# Altium footprint library EASY-EAI-Nano-TB V1.01.PcbLib: 64 footprints (part 4 of 4)
Each footprint in its own frame and in the unit in brackets; x right, y up, seen from the top. Pads: shape width x height; smd on the part's side, far side on the other; paste and mask are expansions set on the pad; w line width, h text height; cw(c..) or ccw(c..) is an arc to the next point about the centre after c.
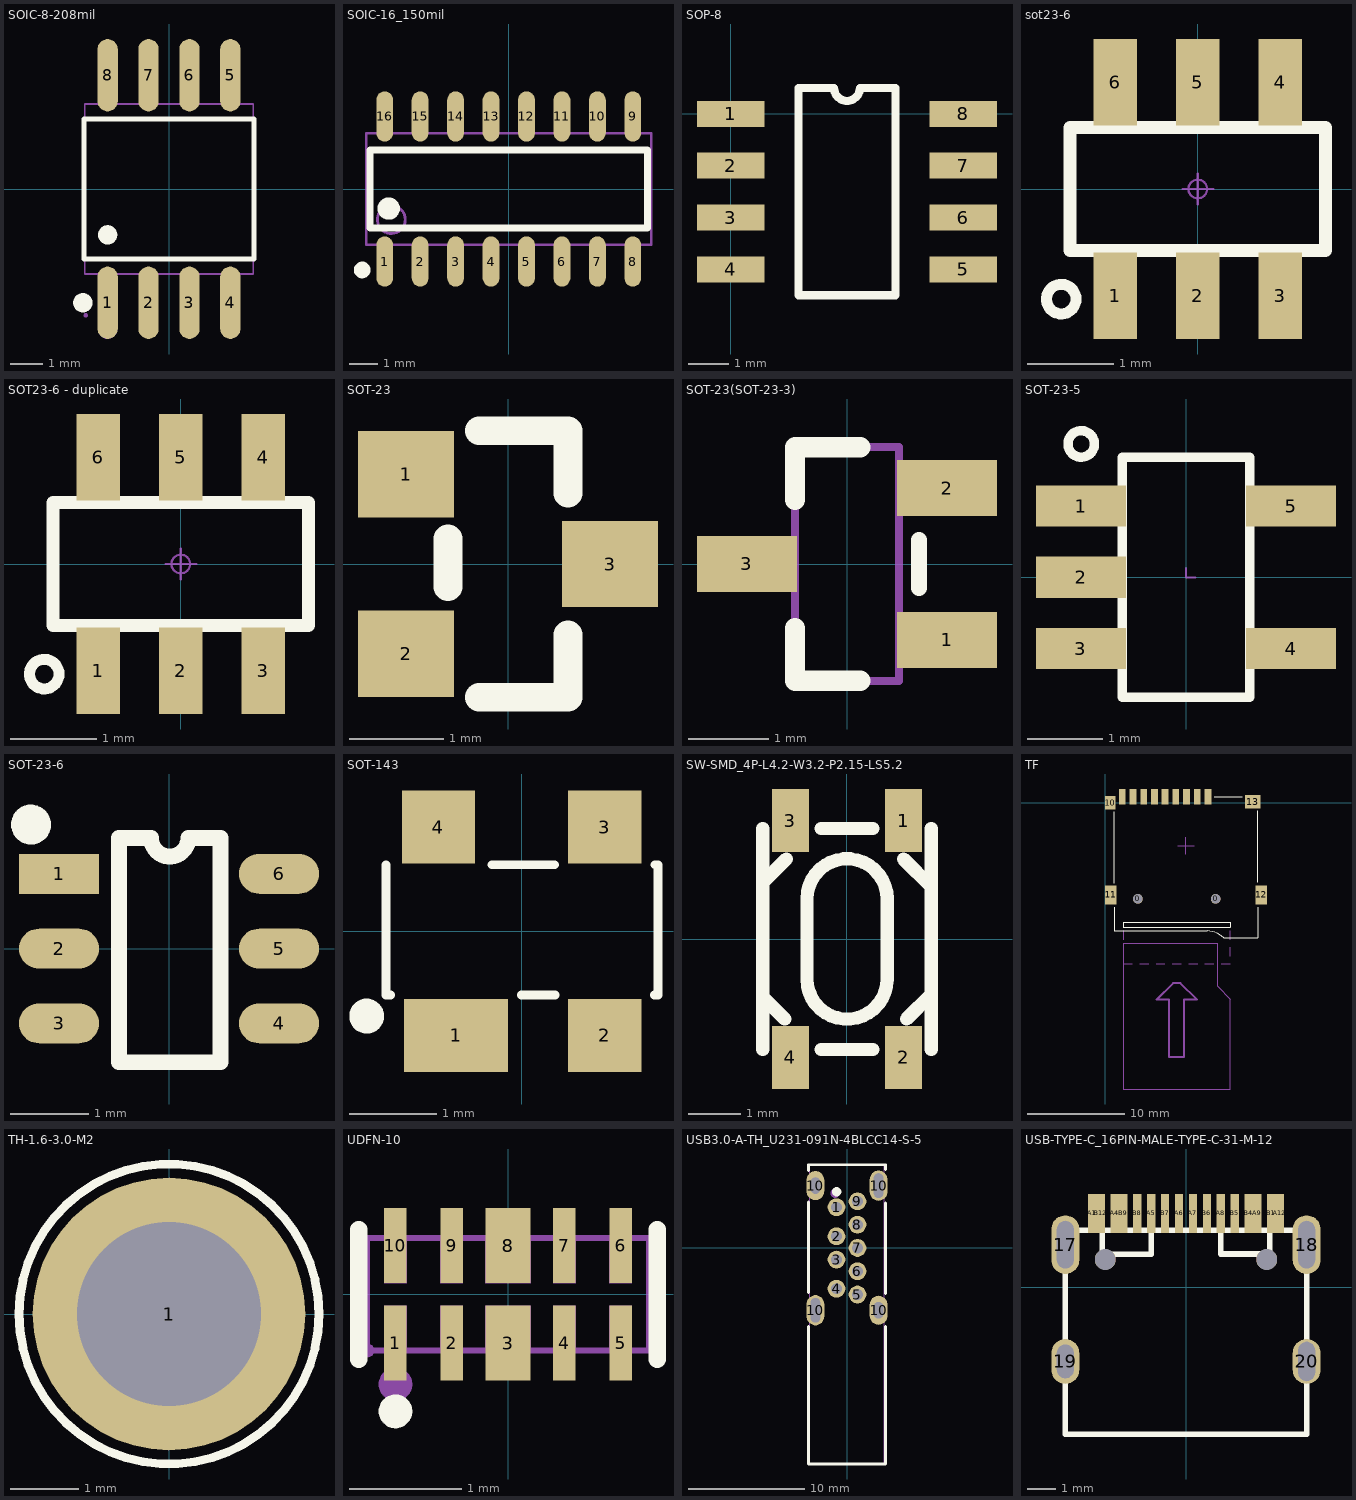
[diagram p3: the footprints below, top view; thin cyan lines are the x and y axes]

## SOIC-8-208mil [mm]
pads (8):
  oval 0.63x2.25 smd: 1(-1.905,-3.53) 2(-0.635,-3.53) 3(0.635,-3.53) 4(1.905,-3.53) 5(1.905,3.53) 6(0.635,3.53) 7(-0.635,3.53) 8(-1.905,3.53)
Top Overlay:
  circle w0.3: c-1.905,-1.424 r0.15
  circle w0.3: c-2.672,-3.53 r0.15
  lines w0.152: -2.639,-2.176 -2.639,2.176 2.639,2.176 2.639,-2.176 -2.639,-2.176
Mechanical 6:
  circle w0.3: c-1.905,-4.35 r0.15
Mechanical 15:
  region: -2.13,-3.95 -2.13,-3.3 -1.68,-3.3 -1.68,-3.95
  region: -2.13,-3.31 -2.13,-2.595 -1.68,-2.595 -1.68,-3.31
  region: -0.86,-3.95 -0.86,-3.3 -0.41,-3.3 -0.41,-3.95
  region: -0.86,-3.31 -0.86,-2.595 -0.41,-2.595 -0.41,-3.31
  region: 0.41,-3.95 0.41,-3.3 0.86,-3.3 0.86,-3.95
  region: 0.41,-3.31 0.41,-2.595 0.86,-2.595 0.86,-3.31
  region: 1.68,-3.95 1.68,-3.3 2.13,-3.3 2.13,-3.95
  region: 1.68,-3.31 1.68,-2.595 2.13,-2.595 2.13,-3.31
  region: -2.13,3.95 -2.13,3.3 -1.68,3.3 -1.68,3.95
  region: -2.13,3.31 -2.13,2.595 -1.68,2.595 -1.68,3.31
  region: -0.86,3.95 -0.86,3.3 -0.41,3.3 -0.41,3.95
  region: -0.86,3.31 -0.86,2.595 -0.41,2.595 -0.41,3.31
  region: 0.41,3.95 0.41,3.3 0.86,3.3 0.86,3.95
  region: 0.41,3.31 0.41,2.595 0.86,2.595 0.86,3.31
  region: 1.68,3.95 1.68,3.3 2.13,3.3 2.13,3.95
  region: 1.68,3.31 1.68,2.595 2.13,2.595 2.13,3.31
  region: -2.525,-3.92 -2.525,-3.895 -2.56,-3.86 -2.61,-3.86 -2.645,-3.895 -2.645,-3.92 -2.645,-3.945 -2.61,-3.98 -2.56,-3.98 -2.525,-3.945
  lines w0.051: -2.615,-2.64 -2.615,2.64 2.615,2.64 2.615,-2.64 -2.615,-2.64

## SOIC-16_150mil [mm]
pads (16):
  oval 0.6x1.8 smd: 1(-4.445,-2.6) 2(-3.175,-2.6) 3(-1.905,-2.6) 4(-0.635,-2.6) 5(0.635,-2.6) 6(1.905,-2.6) 7(3.175,-2.6) 8(4.445,-2.6) 9(4.445,2.6) 10(3.175,2.6) 11(1.905,2.6) 12(0.635,2.6) 13(-0.635,2.6) 14(-1.905,2.6) 15(-3.175,2.6) 16(-4.445,2.6)
Top Overlay:
  circle w0.3: c-5.25,-2.9 r0.15
  circle w0.4: c-4.3,-0.7 r0.2
  lines w0.254: -4.975,-1.4 4.975,-1.4 4.975,1.4 -4.975,1.4 -4.975,-1.4
Mechanical 13:
  circle w0.1: c-4.205,-1.095 r0.5
  lines w0.1: -5.105,-1.995 5.105,-1.995 5.105,1.995 -5.105,1.995 -5.105,-1.995
3D body "SOIC16P127_990X600X175L60X40.STEP": height 1.75, standoff 0, extent -4.95,-2.97 4.95,3.03

## SOP-8 [mil]
pads (8):
  rect 65x25 smd: 1(0,0) 2(0,-50) 3(0,-100) 4(0,-150) 5(224.41,-150) 6(224.41,-100) 7(224.41,-50) 8(224.41,0)
Top Overlay:
  lines w7.87: 65.37,-175 159.04,-175 159.04,25 124.7,25 cw(c112.2,25) 99.7,25 65.37,25 65.37,-175

## sot23-6 [mm] "SOT23-6"
height 0.2
pads (6):
  rect 0.5x1 smd: 1(-0.95,-1.23) 2(0,-1.23) 3(0.95,-1.23) 4(0.95,1.23) 5(0,1.23) 6(-0.95,1.23)
Top Overlay:
  circle w0.127: c-1.575,-1.27 r0.17
  lines w0.15: -1.473,-0.711 -1.473,0.711 1.473,0.711 1.473,-0.711 -1.473,-0.711
Mechanical 8:
  circle w0.025: c0,0 r0.108
  lines w0.025: -0.178,0 0.178,0 ; 0,-0.178 0,0.178
3D body: height 2, standoff 0, extent -1.245,-1.27 1.245,1.27

## SOT23-6 - duplicate [mm]
pads (6):
  rect 0.5x1 smd: 1(-0.95,-1.23) 2(0,-1.23) 3(0.95,-1.23) 4(0.95,1.23) 5(0,1.23) 6(-0.95,1.23)
Top Overlay:
  circle w0.127: c-1.575,-1.27 r0.17
  lines w0.15: -1.473,-0.711 1.473,-0.711 1.473,0.711 -1.473,0.711 -1.473,-0.711
Mechanical 8:
  circle w0.025: c0,0 r0.108
  lines w0.025: -0.178,0 0.178,0 ; 0,-0.178 0,0.178
3D body: height 2, standoff 0, extent -1.245,-1.27 1.245,1.27

## SOT-23 [mil]
pads (3):
  rect 40x36 smd: 1(-42.5,37.4) 2(-42.5,-37.4) 3(42.5,0)
Top Overlay:
  lines w12: -25,-9.5 -25,10.5 ; -12,-55.5 25,-55.5 25,-29.5 ; -12,55.5 25,55.5 25,29.5
3D body "sot23-3.STEP": height 39.37, standoff -0.79, extent -47,-56.98 50.48,57.98

## SOT-23(SOT-23-3) [mm]
height 2.7
pads (3):
  rect 1.25x0.7 smd: 1(1.25,-0.95) 2(1.25,0.95) 3(-1.25,0)
Top Overlay:
  lines w0.2: 0.9,-0.3 0.9,0.3
  lines w0.254: -0.65,-0.8 -0.65,-1.46 0.165,-1.46 ; 0.165,1.46 -0.65,1.46 ; -0.65,0.8 -0.65,1.46 ; -0.65,0.8 -0.65,1.46 ; -0.65,0.8 -0.65,1.46
Mechanical 13:
  lines w0.1: -0.65,-1.46 -0.65,1.46 ; -0.65,-1.46 0.65,-1.46 ; -0.65,-1.46 -0.65,1.46 ; -0.65,-1.46 0.65,-1.46 ; -0.65,-1.46 0.65,-1.46 ; -0.65,-1.46 -0.65,1.46 ; -0.65,1.46 0.65,1.46 ; -0.65,1.46 0.65,1.46 ; -0.65,1.46 0.65,1.46 ; 0.65,-1.46 0.65,1.46 ; 0.65,-1.46 0.65,1.46 ; 0.65,-1.46 0.65,1.46
3D body "SOT-23.step": height 1.3, standoff 0, extent -1.5,-1.5 1.5,1.5

## SOT-23-5 [mm]
pads (5):
  rect 1.2x0.55 smd: 1(-1.4,0.95) 2(-1.4,0) 3(-1.4,-0.95) 4(1.4,-0.95) 5(1.4,0.95)
Top Overlay:
  circle w0.127: c-1.397,1.778 r0.177
  lines w0.127: -0.85,-1.6 0.85,-1.6 0.85,1.6 -0.85,1.6 -0.85,-1.6
Mechanical 2:
  lines w0.025: 0,0.127 0,0 0.127,0

## SOT-23-6 [mil]
pads (6):
  rect 40x20 smd: 1(-55,37.4)
  oval 40x20 smd: 2(-55,0) 3(-55,-37.4) 4(55,-37.4) 5(55,0) 6(55,37.4)
Top Overlay:
  circle w10: c-69,62 r5
  lines w7.87: -25,55.4 -25,-56.8 25.7,-56.8 25.7,55.4 ; -9,55.4 ccw(c0.35,55.4) 9.7,55.4
  lines w8: -25,55.4 -9,55.4 ; 9.7,55.4 25.7,55.4
3D body "User Library-SOT-23-6.STEP": height 42.61, standoff -0.39, extent -48.5,-55 47,55

## SOT-143 [mil]
height 25
pads (4):
  rect 47x33 smd mask+2: 1(-29.5,-46.9)
  rect 33x33 smd mask+2: 2(37.4,-46.9) 3(37.4,46.9) 4(-37.4,46.9)
Top Overlay:
  circle w7.9: c-69.7,-38.2 r3.9
  lines w3.9: -61,29.9 -61,-28.7 -58.9,-28.7 ; -13.4,29.9 14.9,29.9 ; -0.2,-28.7 15.1,-28.7 ; 59.7,-28.7 61.4,-28.7 61.4,29.9 59.9,29.9

## SW-SMD_4P-L4.2-W3.2-P2.15-LS5.2 [mm]
height 1.8
pads (4):
  rect 0.7x1.2 smd: 1(1.075,2.25) 2(1.075,-2.25) 3(-1.075,2.25) 4(-1.075,-2.25)
Top Overlay:
  lines w0.254: -1.6,-2.1 -1.6,2.1 ; -1.6,-1.102 -1.182,-1.52 ; -1.6,1.07 -1.151,1.52 ; -0.494,-2.1 0.494,-2.1 ; -0.494,2.1 0.494,2.1 0.495,2.099 ; 1.074,1.52 1.6,0.994 ; 1.131,-1.52 1.6,-1.051 ; 1.6,-2.1 1.6,2.1 ; -0.761,-0.761 ccw(c0.001,-0.761) 0.762,-0.762 0.763,0.763 ccw(c0.001,0.763) -0.761,0.763 -0.761,-0.761
Mechanical 5:
  region: -1.35,2.1 -1.35,2.6 -0.8,2.6 -0.8,2.1
  region: -1.35,-2.6 -1.35,-2.1 -0.8,-2.1 -0.8,-2.6
  region: 0.8,-2.6 0.8,-2.1 1.35,-2.1 1.35,-2.6
  region: 0.8,2.1 0.8,2.6 1.35,2.6 1.35,2.1

## TF [mm]
height 0.2
pads (15):
  round 1 hole 1 unplated: 0(3.341,-9.865) 0(11.341,-9.865)
  rect 0.7x1.6 smd: 1(10.541,0.635) 2(9.441,0.635) 3(8.341,0.635) 4(7.241,0.635) 5(6.141,0.635) 6(5.041,0.635) 7(3.941,0.635) 8(2.841,0.635) 9(1.741,0.635)
  rect 1.1x1.4 smd: 10(0.491,0.035)
  rect 1.2x2 smd: 11(0.541,-9.465) 12(16.041,-9.465)
  rect 1.6x1.4 smd: 13(15.141,0.135)
Top Overlay:
  lines w0.127: 0.916,-10.714 0.916,-13.165 9.916,-13.165 10.476,-13.165 cw(c10.476,-15.555) 12.166,-13.865 15.666,-13.865 15.666,-10.74 ; 0.916,-8.25 0.916,-0.91 ; 11.187,0.635 14.082,0.635 ; 15.666,-8.174 15.666,-0.808 ; 1.841,-12.772 12.841,-12.772 12.841,-12.289 1.841,-12.289 1.841,-12.772
Mechanical 15:
  lines w0.127: 1.843,-15.753 1.843,-14.834 ; 1.843,-14.077 1.843,-13.157 ; 1.855,-16.51 2.774,-16.51 ; 3.531,-16.51 4.451,-16.51 ; 5.208,-16.51 6.127,-16.51 ; 6.884,-16.51 7.804,-16.51 ; 7.427,-4.415 8.291,-4.415 ; 8.291,-5.279 8.291,-4.415 ; 8.291,-3.551 8.291,-4.415 ; 8.56,-16.51 9.48,-16.51 ; 9.155,-4.415 8.291,-4.415 ; 10.237,-16.51 11.156,-16.51 ; 11.913,-16.51 12.833,-16.51 ; 12.833,-15.753 12.833,-14.834 ; 12.833,-14.077 12.833,-13.157 ; 1.843,-29.415 1.843,-14.415 11.543,-14.415 11.543,-18.86 12.843,-20.16 12.843,-29.415 1.843,-29.415
  lines w0.203: 5.258,-20.226 6.553,-20.226 6.553,-26.119 8.103,-26.119 8.103,-20.201 9.398,-20.201 7.722,-18.524 6.96,-18.524 5.258,-20.226
3D body: height 2, standoff 0, extent 0.916,-13.865 15.666,0.635

## TH-1.6-3.0-M2 [mm]
height 1.016
pads (1):
  round 4 / inner round 3.607 / far side round 4.013 hole 2.7: 1(0,0)
Top Overlay:
  circle w0.127: c0,0 r2.2
Top Paste:
  region: 0.127,1.977 0.306,1.966 0.653,1.879 0.98,1.731 1.274,1.528 1.528,1.274 1.731,0.98 1.879,0.653 1.966,0.306 1.977,0.127 1.366,0.127 1.35,0.245 1.287,0.474 1.186,0.688 1.05,0.882 0.882,1.05 0.688,1.186 0.474,1.287 0.245,1.35 0.127,1.366
  region: -1.977,0.127 -1.966,0.306 -1.879,0.653 -1.731,0.98 -1.528,1.274 -1.274,1.528 -0.98,1.731 -0.653,1.879 -0.306,1.966 -0.127,1.977 -0.127,1.366 -0.245,1.35 -0.474,1.287 -0.688,1.186 -0.882,1.05 -1.05,0.882 -1.186,0.688 -1.287,0.474 -1.35,0.245 -1.366,0.127
  region: -0.127,-1.977 -0.306,-1.966 -0.653,-1.879 -0.98,-1.731 -1.274,-1.528 -1.528,-1.274 -1.731,-0.98 -1.879,-0.653 -1.966,-0.306 -1.977,-0.127 -1.366,-0.127 -1.35,-0.245 -1.287,-0.474 -1.186,-0.688 -1.05,-0.882 -0.882,-1.05 -0.688,-1.186 -0.474,-1.287 -0.245,-1.35 -0.127,-1.366
  region: 1.977,-0.127 1.966,-0.306 1.879,-0.653 1.731,-0.98 1.528,-1.274 1.274,-1.528 0.98,-1.731 0.653,-1.879 0.306,-1.966 0.127,-1.977 0.127,-1.366 0.245,-1.35 0.474,-1.287 0.688,-1.186 0.882,-1.05 1.05,-0.882 1.186,-0.688 1.287,-0.474 1.35,-0.245 1.366,-0.127

## UDFN-10 [mm]
height 0.635
pads (10):
  rect 0.2x0.665 smd mask+0.051: 1(-1,-0.433) 2(-0.5,-0.433) 4(0.5,-0.433) 5(1,-0.433) 6(1,0.433) 7(0.5,0.433) 9(-0.5,0.433) 10(-1,0.433)
  rect 0.4x0.665 smd mask+0.051: 3(0,-0.433) 8(0,0.433)
Top Overlay:
  circle w0.15: c-1,-1.04 r0.075
  lines w0.152: -1.326,-0.576 -1.326,0.576 ; 1.326,-0.576 1.326,0.576
Top Paste:
  region: -0.2,-0.1 0.2,-0.1 0.2,-0.765 -0.2,-0.765 -0.2,-0.766
  region: -0.2,0.765 0.2,0.765 0.2,0.1 -0.2,0.1
  region: -0.601,-0.1 -0.4,-0.1 -0.4,-0.765 -0.6,-0.765
  region: -1.101,-0.1 -0.9,-0.1 -0.9,-0.765 -1.1,-0.765
  region: 0.399,-0.1 0.6,-0.1 0.6,-0.765 0.4,-0.765
  region: 0.899,-0.1 1.1,-0.1 1.1,-0.765 0.9,-0.765
  region: 0.899,0.765 1.1,0.765 1.1,0.101 0.9,0.101
  region: 0.399,0.765 0.6,0.765 0.6,0.101 0.4,0.101
  region: -0.601,0.765 -0.4,0.765 -0.4,0.101 -0.6,0.101
  region: -1.101,0.765 -0.9,0.765 -0.9,0.101 -1.1,0.101
Mechanical 6:
  circle w0.15: c-1,-0.8 r0.075
Mechanical 15:
  region: -0.2,-0.1 0.2,-0.1 0.2,-0.5 -0.2,-0.5
  region: -0.2,0.5 0.2,0.5 0.2,0.1 -0.2,0.1
  region: -1.1,0.5 -1.1,0.1 -0.9,0.1 -0.9,0.5
  region: -0.6,0.5 -0.6,0.1 -0.4,0.1 -0.4,0.5
  region: 0.4,0.5 0.4,0.1 0.6,0.1 0.6,0.5
  region: 0.9,0.5 0.9,0.1 1.1,0.1 1.1,0.5
  region: 0.9,-0.5 0.9,-0.1 1.1,-0.1 1.1,-0.5
  region: 0.4,-0.5 0.4,-0.1 0.6,-0.1 0.6,-0.5
  region: -0.6,-0.5 -0.6,-0.1 -0.4,-0.1 -0.4,-0.5
  region: -1.1,-0.5 -1.1,-0.1 -0.9,-0.1 -0.9,-0.5
  region: -1.185,-0.5 -1.204,-0.454 -1.25,-0.435 -1.296,-0.454 -1.315,-0.5 -1.296,-0.546 -1.25,-0.565 -1.204,-0.546
  lines w0.051: -1.25,-0.5 1.25,-0.5 1.25,0.5 -1.25,0.5 -1.25,-0.5

## USB3.0-A-TH_U231-091N-4BLCC14-S-5 [mil]
pads (13):
  round 60 hole 36 copper offset 0.01,-0.01: 1(-35.44,137.8) 4(-35.44,-137.79)
  round 60 hole 36: 2(-35.44,39.38) 3(-35.44,-39.36) 5(35.44,-157.48) 6(35.44,-78.74) 7(35.44,0) 8(35.44,78.74) 9(35.44,157.48)
  oval 60x102.36 hole 31.5 slot 82.68 at 90 deg: 10(-106.69,-210.62) 10(106.69,210.63)
  oval 60x98.42 hole 31.5 slot 55.12 at 90 deg: 10(-106.69,210.64) 10(106.69,-210.63)
Top Overlay:
  circle w15.75: c-34.99,190 r7.87
  lines w10: -130,-150 -130,156.04 ; -129.91,-265.54 -129.91,-729.96 129.87,-729.96 130.21,-730.31 130.21,-265.51 129.93,-265.23 ; -129.91,261.77 -129.91,281.22 -129.81,281.33 129.93,281.33 129.93,264.79 ; 129.93,-154.4 129.93,151.65
Mechanical 6:
  circle w15.75: c-39.99,185 r7.87
Mechanical 15:
  region: -44.29,128.93 -44.29,146.65 -26.58,146.65 -26.58,128.93
  region: -44.29,30.51 -44.29,48.23 -26.58,48.23 -26.58,30.51
  region: -44.29,-48.23 -44.29,-30.51 -26.58,-30.51 -26.58,-48.23
  region: -44.29,-146.66 -44.29,-128.94 -26.58,-128.94 -26.58,-146.66
  region: 26.58,-166.34 26.58,-148.62 44.29,-148.62 44.29,-166.34
  region: 26.58,-87.6 26.58,-69.88 44.29,-69.88 44.29,-87.6
  region: 26.58,-8.86 26.58,8.86 44.29,8.86 44.29,-8.86
  region: 26.58,69.88 26.58,87.6 44.29,87.6 44.29,69.88
  region: 26.58,148.62 26.58,166.34 44.29,166.34 44.29,148.62
  region: -112.6,-246.06 -112.6,-175.2 -100.79,-175.2 -100.79,-246.06
  region: 100.79,175.2 100.79,246.06 112.6,246.06 112.6,175.2
  region: 100.79,-230.31 100.79,-190.94 112.6,-190.94 112.6,-230.31
  region: -112.6,190.94 -112.6,230.31 -100.79,230.31 -100.79,190.94
  region: -124.01,281.5 -124.04,282.46 -125.41,283.79 -127.33,283.8 -128.71,282.46 -128.73,281.5 -128.71,280.55 -127.33,279.21 -125.42,279.21 -124.04,280.54
  lines w2: -126.38,-730.32 126.38,-730.32 126.38,281.5 -126.38,281.5 -126.38,-730.32

## USB-TYPE-C_16PIN-MALE-TYPE-C-31-M-12 [mm]
pads (22):
  oval 1x2.1 hole 0.6 slot 1.7 at 90 deg: 17(-4.32,1.531) 18(4.32,1.531)
  oval 1x1.6 hole 0.6 slot 1.2 at 90 deg: 19(-4.32,-2.649)
  oval 1x1.6 hole 0.6 slot 1.4 at 90 deg: 20(4.32,-2.649)
  rect 0.3x1.4 smd: A1(-3.35,2.649) A4(-2.55,2.649) A5(-1.25,2.649) A6(-0.25,2.649) A7(0.25,2.649) A8(1.25,2.649) A9(2.55,2.649) A12(3.35,2.649) B1(3.05,2.649) B4(2.25,2.649) B5(1.75,2.649) B6(0.75,2.649) B7(-0.75,2.649) B8(-1.75,2.649) B9(-2.25,2.649) B12(-3.05,2.649)
  round 0.75 hole 0.75 unplated: ""(-2.89,1.001) ""(2.89,1.001)
Top Overlay:
  lines w0.2: -3,2.049 -3,1.196 -1.25,1.196 -1.25,2.049 ; 1.247,2.051 1.247,1.198 2.997,1.198 2.997,2.051 ; -4.32,-5.249 -4.32,2.051 4.32,2.051 4.32,-5.249 -4.32,-5.249